# EAGLE library part NOTCH42 (library ABI)
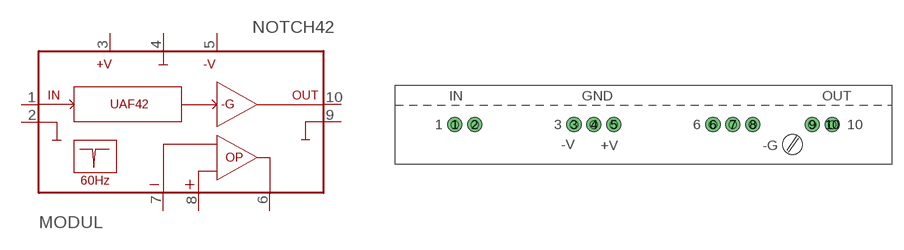
[diagram p3: symbol with the pads of NOTCH42; footprint NOTCH42]

Designator prefix MODUL

## NOTCH42  [NOTCH42]
1  IN
2  GND1
3  +V
4  COMM
5  -V
6  OP-OUT
7  OP-
8  OP+
9  GND2
10  OUT

## Footprint NOTCH42 (pad centres in mm)
drill 1.016 pad 1.778 round: 1 -22.86,0; 2 -20.32,0; 3 -7.62,0; 4 -5.08,0; 5 -2.54,0; 6 10.16,0; 7 12.7,0; 8 15.24,0; 9 22.86,0; 10 25.4,0